# Altium schematic symbol library SS2040FL_R1_00001.SchLib: 1 symbol
Pins are listed as number, name and electrical type; pins without a type are passive.

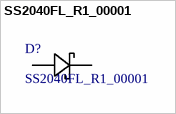
[diagram p0: symbol SS2040FL_R1_00001]

## SS2040FL_R1_00001
designator D?
Description; Manufacturer_Name: Panjit; Copyright: Copyright (C) 2026 Ultra Librarian. All rights reserved.; Manufacturer_Part_Number: SS2040FL_R1_00001
footprint CR_R1_00001_PNJ
pins: 1, 2